# EAGLE library part AD5293 (library Gemelke_Lab)
AD5329 1024-position Digipot with SPI Interface
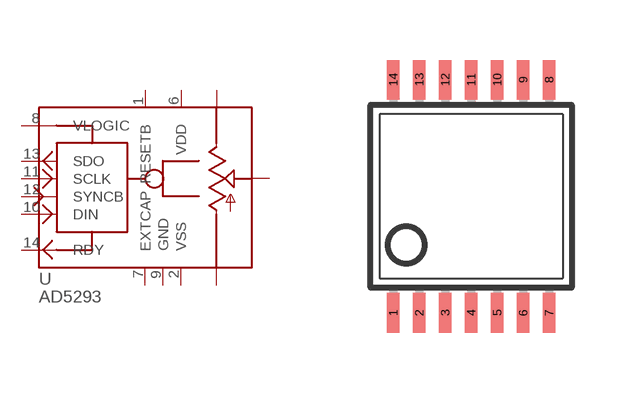
[diagram p5: symbol with the pads of TSSOP14; footprint TSSOP14]

Designator prefix U

## AD5293  [TSSOP14]
1  RESETB  in
2  VSS  pwr
3  A  pas
4  W  pas
5  B  pas
6  VDD  pwr
7  EXTCAP  pas
8  VLOGIC  pwr
9  GND  pwr
10  DIN  in
11  SCLK  in
12  SYNCB  in
13  SDO  out
14  RDY  out

## Footprint TSSOP14 (pad centres in mm)
smd 0.305 x 0.991: 1 -1.95,-2.918; 2 -1.3,-2.918; 3 -0.65,-2.918; 4 0,-2.918; 5 0.65,-2.918; 6 1.3,-2.918; 7 1.95,-2.918; 8 1.95,2.918; 9 1.3,2.918; 10 0.65,2.918; 11 0,2.918; 12 -0.65,2.918; 13 -1.3,2.918; 14 -1.95,2.918